# Altium footprint library B3F-3150.PcbLib: 1 footprints
Each footprint in its own frame and in the unit in brackets; x right, y up, seen from the top. Pads: shape width x height; smd on the part's side, far side on the other; paste and mask are expansions set on the pad; w line width, h text height; cw(c..) or ccw(c..) is an arc to the next point about the centre after c.
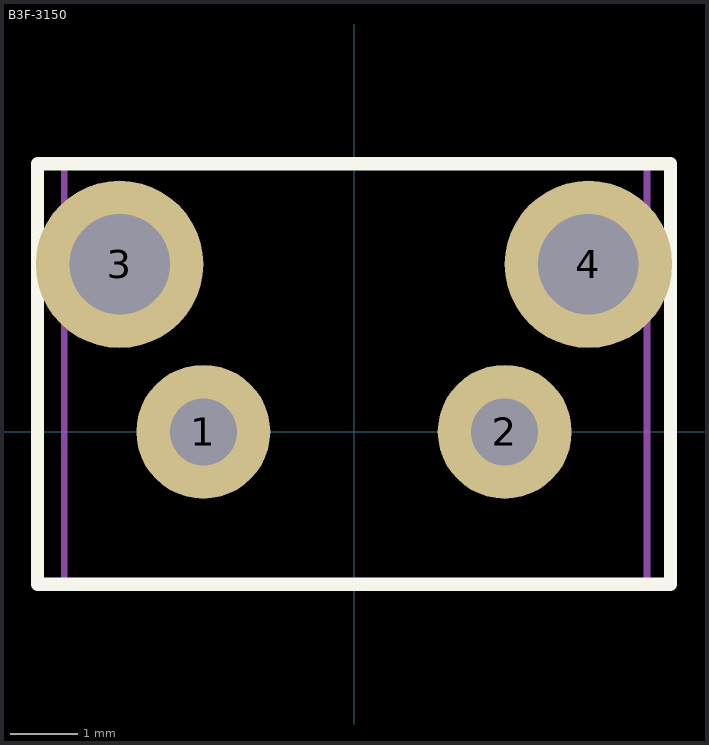
[diagram p0: the footprint, top view; thin cyan lines are the x and y axes]

## B3F-3150 [mm]
pads (4):
  round 2 hole 1: 1(-2.25,0) 2(2.25,0)
  round 2.5 hole 1.5: 3(-3.5,2.5) 4(3.5,2.5)
Top Overlay:
  lines w0.2: -4.725,-2.275 4.725,-2.275 4.725,4 -4.725,4 -4.725,-2.275
Top Assembly:
  lines w0.1: -4.325,-2.275 4.375,-2.275 4.375,4 -4.325,4 -4.325,-2.275
  text "'.Designator'" at 0.1,0.367 h0.8
3D body "B3F-3150.step": height 7.4, standoff -3.5, extent -4.325,-6.15 4.375,4